# Altium integrated library Altium_WE-PD_rev22g.IntLib: 360 symbols (part 5 of 7)
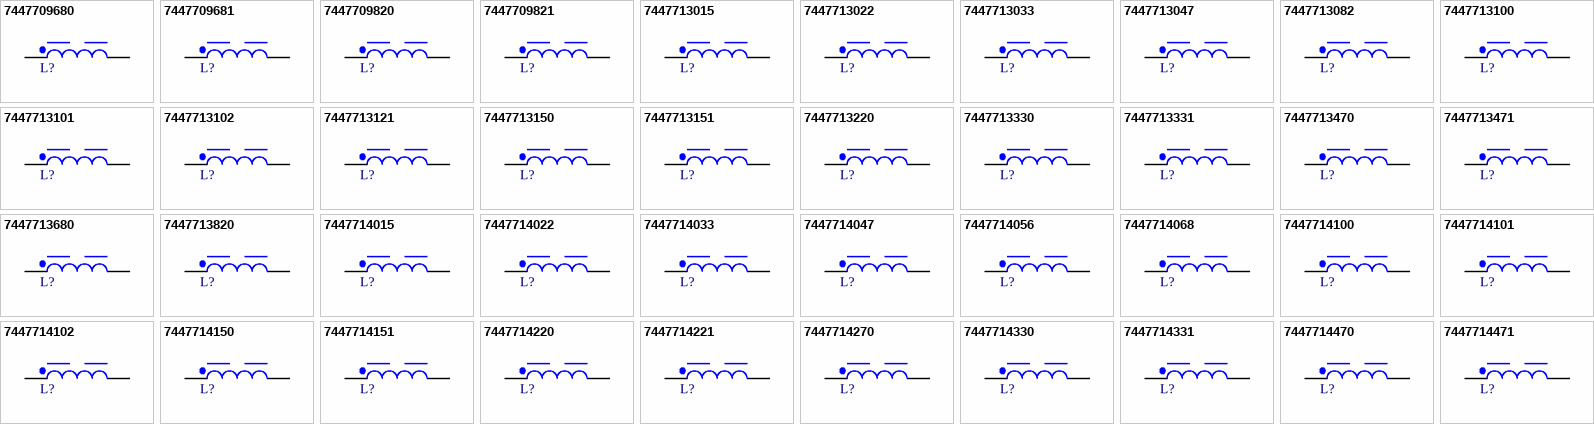
[diagram p12: symbols 7447709680 to 7447714471]

## 7447714015
designator L?, comment 1.5uH, 10A  (value not drawn)
WE-PD SMT Power Inductor, size 1050P, 1.5uH, 10A, 6.6mOhm; Manufacturer Part Number: 7447714015; Manufacturer: Wurth Elektronik; DC Resistance: 5.55mOhm; Saturation Current: 12.5A; Self Resonant Frequency: 69MHz; Type: Performance; Category: Power Inductors; Match Code: WE-PD; ComponentLink1Description: Website Link; ComponentLink1URL: https://www.we-online.com/redexpert/article/7447714015?ad; ComponentLink2Description: Datasheet Link; ComponentLink2URL: https://www.we-online.com/redexpert/spec/7447714015?ad; Mount: Surface Mount; Operating Temperature Max: 150°C; Operating Temperature Min: -40°C; Packaging: Tape and Reel; Case/Size Code: 1050P; Length: 10mm; Width: 10mm; Height: 5mm; DC Resistance Max: 6.6mOhm; Inductance: 1.5uH; Rated Current: 10A
footprint WE-PD_1050P
simulation model 1050_7447714015_1.5u
pins: 1, 2

## 7447714022
designator L?, comment 2.2uH, 8.6A  (value not drawn)
WE-PD SMT Power Inductor, size 1050P, 2.2uH, 8.6A, 8mOhm; Manufacturer Part Number: 7447714022; Manufacturer: Wurth Elektronik; DC Resistance: 6.8mOhm; Saturation Current: 9.5A; Self Resonant Frequency: 53MHz; Type: Performance; Category: Power Inductors; Match Code: WE-PD; ComponentLink1Description: Website Link; ComponentLink1URL: https://www.we-online.com/redexpert/article/7447714022?ad; ComponentLink2Description: Datasheet Link; ComponentLink2URL: https://www.we-online.com/redexpert/spec/7447714022?ad; Mount: Surface Mount; Operating Temperature Max: 150°C; Operating Temperature Min: -40°C; Packaging: Tape and Reel; Case/Size Code: 1050P; Length: 10mm; Width: 10mm; Height: 5mm; DC Resistance Max: 8mOhm; Inductance: 2.2uH; Rated Current: 8.6A
footprint WE-PD_1050P
simulation model 1050_7447714022_2.2u
pins: 1, 2

## 7447714033
designator L?, comment 3.3uH, 7.5A  (value not drawn)
WE-PD SMT Power Inductor, size 1050P, 3.3uH, 7.5A, 10.5mOhm; Manufacturer Part Number: 7447714033; Manufacturer: Wurth Elektronik; DC Resistance: 8.9mOhm; Saturation Current: 9A; Self Resonant Frequency: 42MHz; Type: Performance; Category: Power Inductors; Match Code: WE-PD; ComponentLink1Description: Website Link; ComponentLink1URL: https://www.we-online.com/redexpert/article/7447714033?ad; ComponentLink2Description: Datasheet Link; ComponentLink2URL: https://www.we-online.com/redexpert/spec/7447714033?ad; Mount: Surface Mount; Operating Temperature Max: 150°C; Operating Temperature Min: -40°C; Packaging: Tape and Reel; Case/Size Code: 1050P; Length: 10mm; Width: 10mm; Height: 5mm; DC Resistance Max: 10.5mOhm; Inductance: 3.3uH; Rated Current: 7.5A
footprint WE-PD_1050P
simulation model 1050_7447714033_3.3u
pins: 1, 2

## 7447714047
designator L?, comment 4.7uH, 7A  (value not drawn)
WE-PD SMT Power Inductor, size 1050P, 4.7uH, 7A, 12.4mOhm; Manufacturer Part Number: 7447714047; Manufacturer: Wurth Elektronik; DC Resistance: 10.4mOhm; Saturation Current: 8A; Self Resonant Frequency: 34MHz; Type: Performance; Category: Power Inductors; Match Code: WE-PD; ComponentLink1Description: Website Link; ComponentLink1URL: https://www.we-online.com/redexpert/article/7447714047?ad; ComponentLink2Description: Datasheet Link; ComponentLink2URL: https://www.we-online.com/redexpert/spec/7447714047?ad; Mount: Surface Mount; Operating Temperature Max: 150°C; Operating Temperature Min: -40°C; Packaging: Tape and Reel; Case/Size Code: 1050P; Length: 10mm; Width: 10mm; Height: 5mm; DC Resistance Max: 12.4mOhm; Inductance: 4.7uH; Rated Current: 7A
footprint WE-PD_1050P
simulation model 1050_7447714047_4.7u
pins: 1, 2

## 7447714056
designator L?, comment 5.6uH, 6A  (value not drawn)
WE-PD SMT Power Inductor, size 1050P, 5.6uH, 6A, 14.4mOhm; Manufacturer Part Number: 7447714056; Manufacturer: Wurth Elektronik; DC Resistance: 12mOhm; Saturation Current: 7.2A; Self Resonant Frequency: 28MHz; Type: Performance; Category: Power Inductors; Match Code: WE-PD; ComponentLink1Description: Website Link; ComponentLink1URL: https://www.we-online.com/redexpert/article/7447714056?ad; ComponentLink2Description: Datasheet Link; ComponentLink2URL: https://www.we-online.com/redexpert/spec/7447714056?ad; Mount: Surface Mount; Operating Temperature Max: 150°C; Operating Temperature Min: -40°C; Packaging: Tape and Reel; Case/Size Code: 1050P; Length: 10mm; Width: 10mm; Height: 5mm; DC Resistance Max: 14.4mOhm; Inductance: 5.6uH; Rated Current: 6A
footprint WE-PD_1050P
simulation model 1050_7447714056_5.6u
pins: 1, 2

## 7447714068
designator L?, comment 6.8uH, 5.2A  (value not drawn)
WE-PD SMT Power Inductor, size 1050P, 6.8uH, 5.2A, 22mOhm; Manufacturer Part Number: 7447714068; Manufacturer: Wurth Elektronik; DC Resistance: 18.5mOhm; Saturation Current: 5.8A; Self Resonant Frequency: 23.5MHz; Type: Performance; Category: Power Inductors; Match Code: WE-PD; ComponentLink1Description: Website Link; ComponentLink1URL: https://www.we-online.com/redexpert/article/7447714068?ad; ComponentLink2Description: Datasheet Link; ComponentLink2URL: https://www.we-online.com/redexpert/spec/7447714068?ad; Mount: Surface Mount; Operating Temperature Max: 150°C; Operating Temperature Min: -40°C; Packaging: Tape and Reel; Case/Size Code: 1050P; Length: 10mm; Width: 10mm; Height: 5mm; DC Resistance Max: 22mOhm; Inductance: 6.8uH; Rated Current: 5.2A
footprint WE-PD_1050P
simulation model 1050_7447714068_6.8u
pins: 1, 2

## 7447714100
designator L?, comment 10uH, 4.3A  (value not drawn)
WE-PD SMT Power Inductor, size 1050P, 10uH, 4.3A, 27mOhm; Manufacturer Part Number: 7447714100; Manufacturer: Wurth Elektronik; DC Resistance: 23mOhm; Saturation Current: 5A; Self Resonant Frequency: 20.5MHz; Type: Performance; Category: Power Inductors; Match Code: WE-PD; ComponentLink1Description: Website Link; ComponentLink1URL: https://www.we-online.com/redexpert/article/7447714100?ad; ComponentLink2Description: Datasheet Link; ComponentLink2URL: https://www.we-online.com/redexpert/spec/7447714100?ad; Mount: Surface Mount; Operating Temperature Max: 150°C; Operating Temperature Min: -40°C; Packaging: Tape and Reel; Case/Size Code: 1050P; Length: 10mm; Width: 10mm; Height: 5mm; DC Resistance Max: 27mOhm; Inductance: 10uH; Rated Current: 4.3A
footprint WE-PD_1050P
simulation model 1050_7447714100_10u
pins: 1, 2

## 7447714101
designator L?, comment 100uH, 1.5A  (value not drawn)
WE-PD SMT Power Inductor, size 1050P, 100uH, 1.5A, 198mOhm; Manufacturer Part Number: 7447714101; Manufacturer: Wurth Elektronik; DC Resistance: 165mOhm; Saturation Current: 1.8A; Self Resonant Frequency: 5.9MHz; Type: Performance; Category: Power Inductors; Match Code: WE-PD; ComponentLink1Description: Website Link; ComponentLink1URL: https://www.we-online.com/redexpert/article/7447714101?ad; ComponentLink2Description: Datasheet Link; ComponentLink2URL: https://www.we-online.com/redexpert/spec/7447714101?ad; Mount: Surface Mount; Operating Temperature Max: 150°C; Operating Temperature Min: -40°C; Packaging: Tape and Reel; Case/Size Code: 1050P; Length: 10mm; Width: 10mm; Height: 5mm; DC Resistance Max: 198mOhm; Inductance: 100uH; Rated Current: 1.5A
footprint WE-PD_1050P
simulation model 1050_7447714101_100u
pins: 1, 2

## 7447714102
designator L?, comment 1000uH, 0.43A  (value not drawn)
WE-PD SMT Power Inductor, size 1050P, 1000uH, 0.43A, 2050mOhm; Manufacturer Part Number: 7447714102; Manufacturer: Wurth Elektronik; DC Resistance: 1860mOhm; Saturation Current: 0.55A; Self Resonant Frequency: 1.7MHz; Type: Performance; Category: Power Inductors; Match Code: WE-PD; ComponentLink1Description: Website Link; ComponentLink1URL: https://www.we-online.com/redexpert/article/7447714102?ad; ComponentLink2Description: Datasheet Link; ComponentLink2URL: https://www.we-online.com/redexpert/spec/7447714102?ad; Mount: Surface Mount; Operating Temperature Max: 150°C; Operating Temperature Min: -40°C; Packaging: Tape and Reel; Case/Size Code: 1050P; Length: 10mm; Width: 10mm; Height: 5mm; DC Resistance Max: 2050mOhm; Inductance: 1000uH; Rated Current: 0.43A
footprint WE-PD_1050P
simulation model 1050_7447714102_1000u
pins: 1, 2

## 7447714150
designator L?, comment 15uH, 3.5A  (value not drawn)
WE-PD SMT Power Inductor, size 1050P, 15uH, 3.5A, 43mOhm; Manufacturer Part Number: 7447714150; Manufacturer: Wurth Elektronik; DC Resistance: 36mOhm; Saturation Current: 4.1A; Self Resonant Frequency: 16.8MHz; Type: Performance; Category: Power Inductors; Match Code: WE-PD; ComponentLink1Description: Website Link; ComponentLink1URL: https://www.we-online.com/redexpert/article/7447714150?ad; ComponentLink2Description: Datasheet Link; ComponentLink2URL: https://www.we-online.com/redexpert/spec/7447714150?ad; Mount: Surface Mount; Operating Temperature Max: 150°C; Operating Temperature Min: -40°C; Packaging: Tape and Reel; Case/Size Code: 1050P; Length: 10mm; Width: 10mm; Height: 5mm; DC Resistance Max: 43mOhm; Inductance: 15uH; Rated Current: 3.5A
footprint WE-PD_1050P
simulation model 1050_7447714150_15u
pins: 1, 2

## 7447714151
designator L?, comment 150uH, 1.2A  (value not drawn)
WE-PD SMT Power Inductor, size 1050P, 150uH, 1.2A, 300mOhm; Manufacturer Part Number: 7447714151; Manufacturer: Wurth Elektronik; DC Resistance: 251mOhm; Saturation Current: 1.4A; Self Resonant Frequency: 4.9MHz; Type: Performance; Category: Power Inductors; Match Code: WE-PD; ComponentLink1Description: Website Link; ComponentLink1URL: https://www.we-online.com/redexpert/article/7447714151?ad; ComponentLink2Description: Datasheet Link; ComponentLink2URL: https://www.we-online.com/redexpert/spec/7447714151?ad; Mount: Surface Mount; Operating Temperature Max: 150°C; Operating Temperature Min: -40°C; Packaging: Tape and Reel; Case/Size Code: 1050P; Length: 10mm; Width: 10mm; Height: 5mm; DC Resistance Max: 300mOhm; Inductance: 150uH; Rated Current: 1.2A
footprint WE-PD_1050P
simulation model 1050_7447714151_150u
pins: 1, 2

## 7447714220
designator L?, comment 22uH, 3A  (value not drawn)
WE-PD SMT Power Inductor, size 1050P, 22uH, 3A, 50mOhm; Manufacturer Part Number: 7447714220; Manufacturer: Wurth Elektronik; DC Resistance: 42mOhm; Saturation Current: 3.6A; Self Resonant Frequency: 14.5MHz; Type: Performance; Category: Power Inductors; Match Code: WE-PD; ComponentLink1Description: Website Link; ComponentLink1URL: https://www.we-online.com/redexpert/article/7447714220?ad; ComponentLink2Description: Datasheet Link; ComponentLink2URL: https://www.we-online.com/redexpert/spec/7447714220?ad; Mount: Surface Mount; Operating Temperature Max: 150°C; Operating Temperature Min: -40°C; Packaging: Tape and Reel; Case/Size Code: 1050P; Length: 10mm; Width: 10mm; Height: 5mm; DC Resistance Max: 50mOhm; Inductance: 22uH; Rated Current: 3A
footprint WE-PD_1050P
simulation model 1050_7447714220_22u
pins: 1, 2

## 7447714221
designator L?, comment 220uH, 1A  (value not drawn)
WE-PD SMT Power Inductor, size 1050P, 220uH, 1A, 439mOhm; Manufacturer Part Number: 7447714221; Manufacturer: Wurth Elektronik; DC Resistance: 366mOhm; Saturation Current: 1.2A; Self Resonant Frequency: 4.3MHz; Type: Performance; Category: Power Inductors; Match Code: WE-PD; ComponentLink1Description: Website Link; ComponentLink1URL: https://www.we-online.com/redexpert/article/7447714221?ad; ComponentLink2Description: Datasheet Link; ComponentLink2URL: https://www.we-online.com/redexpert/spec/7447714221?ad; Mount: Surface Mount; Operating Temperature Max: 150°C; Operating Temperature Min: -40°C; Packaging: Tape and Reel; Case/Size Code: 1050P; Length: 10mm; Width: 10mm; Height: 5mm; DC Resistance Max: 439mOhm; Inductance: 220uH; Rated Current: 1A
footprint WE-PD_1050P
simulation model 1050_7447714221_220u
pins: 1, 2

## 7447714270
designator L?, comment 27uH, 2.6A  (value not drawn)
WE-PD SMT Power Inductor, size 1050P, 27uH, 2.6A, 74mOhm; Manufacturer Part Number: 7447714270; Manufacturer: Wurth Elektronik; DC Resistance: 63mOhm; Saturation Current: 3.4A; Self Resonant Frequency: 14MHz; Type: Performance; Category: Power Inductors; Match Code: WE-PD; ComponentLink1Description: Website Link; ComponentLink1URL: https://www.we-online.com/redexpert/article/7447714270?ad; ComponentLink2Description: Datasheet Link; ComponentLink2URL: https://www.we-online.com/redexpert/spec/7447714270?ad; Mount: Surface Mount; Operating Temperature Max: 150°C; Operating Temperature Min: -40°C; Packaging: Tape and Reel; Case/Size Code: 1050P; Length: 10mm; Width: 10mm; Height: 5mm; DC Resistance Max: 74mOhm; Inductance: 27uH; Rated Current: 2.6A
footprint WE-PD_1050P
simulation model 1050_7447714270_27u
pins: 1, 2

## 7447714330
designator L?, comment 33uH, 2.5A  (value not drawn)
WE-PD SMT Power Inductor, size 1050P, 33uH, 2.5A, 79mOhm; Manufacturer Part Number: 7447714330; Manufacturer: Wurth Elektronik; DC Resistance: 66mOhm; Saturation Current: 2.9A; Self Resonant Frequency: 11.1MHz; Type: Performance; Category: Power Inductors; Match Code: WE-PD; ComponentLink1Description: Website Link; ComponentLink1URL: https://www.we-online.com/redexpert/article/7447714330?ad; ComponentLink2Description: Datasheet Link; ComponentLink2URL: https://www.we-online.com/redexpert/spec/7447714330?ad; Mount: Surface Mount; Operating Temperature Max: 150°C; Operating Temperature Min: -40°C; Packaging: Tape and Reel; Case/Size Code: 1050P; Length: 10mm; Width: 10mm; Height: 5mm; DC Resistance Max: 79mOhm; Inductance: 33uH; Rated Current: 2.5A
footprint WE-PD_1050P
simulation model 1050_7447714330_33u
pins: 1, 2

## 7447714331
designator L?, comment 330uH, 0.71A  (value not drawn)
WE-PD SMT Power Inductor, size 1050P, 330uH, 0.71A, 750mOhm; Manufacturer Part Number: 7447714331; Manufacturer: Wurth Elektronik; DC Resistance: 655mOhm; Saturation Current: 1A; Self Resonant Frequency: 3.15MHz; Type: Performance; Category: Power Inductors; Match Code: WE-PD; ComponentLink1Description: Website Link; ComponentLink1URL: https://www.we-online.com/redexpert/article/7447714331?ad; ComponentLink2Description: Datasheet Link; ComponentLink2URL: https://www.we-online.com/redexpert/spec/7447714331?ad; Mount: Surface Mount; Operating Temperature Max: 150°C; Operating Temperature Min: -40°C; Packaging: Tape and Reel; Case/Size Code: 1050P; Length: 10mm; Width: 10mm; Height: 5mm; DC Resistance Max: 750mOhm; Inductance: 330uH; Rated Current: 0.71A
footprint WE-PD_1050P
simulation model 1050_7447714331_330u
pins: 1, 2

## 7447714470
designator L?, comment 47uH, 2.2A  (value not drawn)
WE-PD SMT Power Inductor, size 1050P, 47uH, 2.2A, 99mOhm; Manufacturer Part Number: 7447714470; Manufacturer: Wurth Elektronik; DC Resistance: 83mOhm; Saturation Current: 2.5A; Self Resonant Frequency: 8.8MHz; Type: Performance; Category: Power Inductors; Match Code: WE-PD; ComponentLink1Description: Website Link; ComponentLink1URL: https://www.we-online.com/redexpert/article/7447714470?ad; ComponentLink2Description: Datasheet Link; ComponentLink2URL: https://www.we-online.com/redexpert/spec/7447714470?ad; Mount: Surface Mount; Operating Temperature Max: 150°C; Operating Temperature Min: -40°C; Packaging: Tape and Reel; Case/Size Code: 1050P; Length: 10mm; Width: 10mm; Height: 5mm; DC Resistance Max: 99mOhm; Inductance: 47uH; Rated Current: 2.2A
footprint WE-PD_1050P
simulation model 1050_7447714470_47u
pins: 1, 2

## 7447714471
designator L?, comment 470uH, 0.6A  (value not drawn)
WE-PD SMT Power Inductor, size 1050P, 470uH, 0.6A, 1100mOhm; Manufacturer Part Number: 7447714471; Manufacturer: Wurth Elektronik; DC Resistance: 960mOhm; Saturation Current: 0.82A; Self Resonant Frequency: 2.5MHz; Type: Performance; Category: Power Inductors; Match Code: WE-PD; ComponentLink1Description: Website Link; ComponentLink1URL: https://www.we-online.com/redexpert/article/7447714471?ad; ComponentLink2Description: Datasheet Link; ComponentLink2URL: https://www.we-online.com/redexpert/spec/7447714471?ad; Mount: Surface Mount; Operating Temperature Max: 150°C; Operating Temperature Min: -40°C; Packaging: Tape and Reel; Case/Size Code: 1050P; Length: 10mm; Width: 10mm; Height: 5mm; DC Resistance Max: 1100mOhm; Inductance: 470uH; Rated Current: 0.6A
footprint WE-PD_1050P
simulation model 1050_7447714471_470u
pins: 1, 2

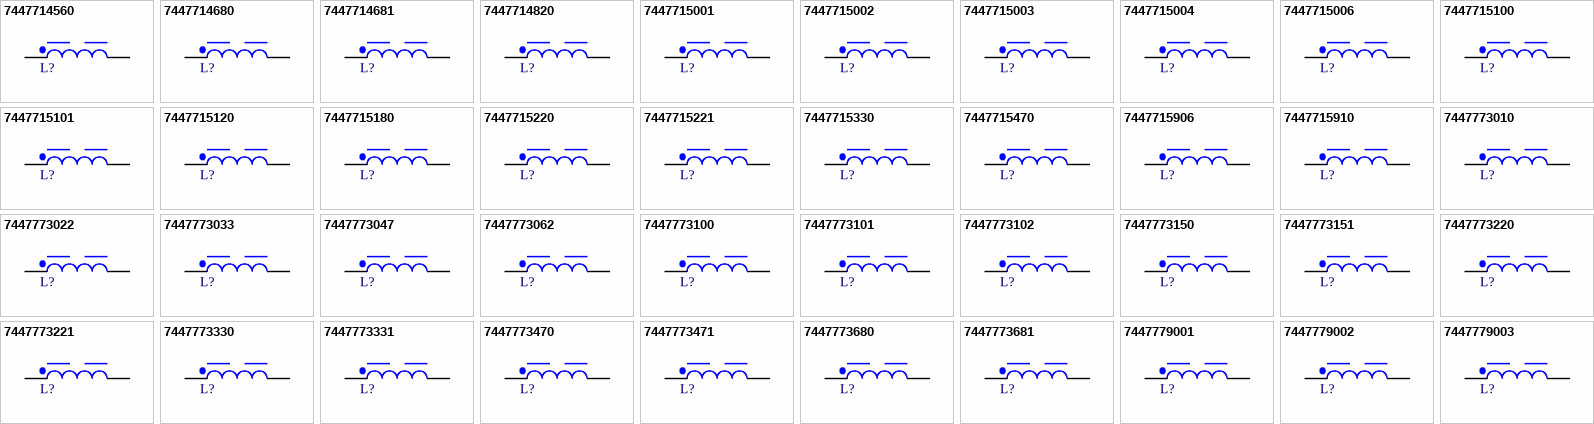
[diagram p6: symbols 7447714560 to 7447779003]

## 7447714560
designator L?, comment 56uH, 2A  (value not drawn)
WE-PD SMT Power Inductor, size 1050P, 56uH, 2A, 121mOhm; Manufacturer Part Number: 7447714560; Manufacturer: Wurth Elektronik; DC Resistance: 101mOhm; Saturation Current: 2.3A; Self Resonant Frequency: 8.6MHz; Type: Performance; Category: Power Inductors; Match Code: WE-PD; ComponentLink1Description: Website Link; ComponentLink1URL: https://www.we-online.com/redexpert/article/7447714560?ad; ComponentLink2Description: Datasheet Link; ComponentLink2URL: https://www.we-online.com/redexpert/spec/7447714560?ad; Mount: Surface Mount; Operating Temperature Max: 150°C; Operating Temperature Min: -40°C; Packaging: Tape and Reel; Case/Size Code: 1050P; Length: 10mm; Width: 10mm; Height: 5mm; DC Resistance Max: 121mOhm; Inductance: 56uH; Rated Current: 2A
footprint WE-PD_1050P
simulation model 1050_7447714560_56u
pins: 1, 2

## 7447714680
designator L?, comment 68uH, 1.9A  (value not drawn)
WE-PD SMT Power Inductor, size 1050P, 68uH, 1.9A, 132mOhm; Manufacturer Part Number: 7447714680; Manufacturer: Wurth Elektronik; DC Resistance: 110mOhm; Saturation Current: 2.2A; Self Resonant Frequency: 8MHz; Type: Performance; Category: Power Inductors; Match Code: WE-PD; ComponentLink1Description: Website Link; ComponentLink1URL: https://www.we-online.com/redexpert/article/7447714680?ad; ComponentLink2Description: Datasheet Link; ComponentLink2URL: https://www.we-online.com/redexpert/spec/7447714680?ad; Mount: Surface Mount; Operating Temperature Max: 150°C; Operating Temperature Min: -40°C; Packaging: Tape and Reel; Case/Size Code: 1050P; Length: 10mm; Width: 10mm; Height: 5mm; DC Resistance Max: 132mOhm; Inductance: 68uH; Rated Current: 1.9A
footprint WE-PD_1050P
simulation model 1050_7447714680_68u
pins: 1, 2

## 7447714681
designator L?, comment 680uH, 0.51A  (value not drawn)
WE-PD SMT Power Inductor, size 1050P, 680uH, 0.51A, 1220mOhm; Manufacturer Part Number: 7447714681; Manufacturer: Wurth Elektronik; DC Resistance: 1140mOhm; Saturation Current: 0.71A; Self Resonant Frequency: 2.05MHz; Type: Performance; Category: Power Inductors; Match Code: WE-PD; ComponentLink1Description: Website Link; ComponentLink1URL: https://www.we-online.com/redexpert/article/7447714681?ad; ComponentLink2Description: Datasheet Link; ComponentLink2URL: https://www.we-online.com/redexpert/spec/7447714681?ad; Mount: Surface Mount; Operating Temperature Max: 150°C; Operating Temperature Min: -40°C; Packaging: Tape and Reel; Case/Size Code: 1050P; Length: 10mm; Width: 10mm; Height: 5mm; DC Resistance Max: 1220mOhm; Inductance: 680uH; Rated Current: 0.51A
footprint WE-PD_1050P
simulation model 1050_7447714681_680u
pins: 1, 2

## 7447714820
designator L?, comment 82uH, 1.6A  (value not drawn)
WE-PD SMT Power Inductor, size 1050P, 82uH, 1.6A, 176mOhm; Manufacturer Part Number: 7447714820; Manufacturer: Wurth Elektronik; DC Resistance: 147mOhm; Saturation Current: 1.85A; Self Resonant Frequency: 6.6MHz; Type: Performance; Category: Power Inductors; Match Code: WE-PD; ComponentLink1Description: Website Link; ComponentLink1URL: https://www.we-online.com/redexpert/article/7447714820?ad; ComponentLink2Description: Datasheet Link; ComponentLink2URL: https://www.we-online.com/redexpert/spec/7447714820?ad; Mount: Surface Mount; Operating Temperature Max: 150°C; Operating Temperature Min: -40°C; Packaging: Tape and Reel; Case/Size Code: 1050P; Length: 10mm; Width: 10mm; Height: 5mm; DC Resistance Max: 176mOhm; Inductance: 82uH; Rated Current: 1.6A
footprint WE-PD_1050P
simulation model 1050_7447714820_82u
pins: 1, 2

## 7447715001
designator L?, comment 1.8uH, 7.6A  (value not drawn)
WE-PD SMT Power Inductor, size 1245, 1.8uH, 7.6A, 9.5mOhm; Manufacturer Part Number: 7447715001; Manufacturer: Wurth Elektronik; Case/Size Code: 1245; DC Resistance: 7.5mOhm; Saturation Current: 10.2A; Self Resonant Frequency: 76MHz; Type: Standard; Category: Power Inductors; Match Code: WE-PD; ComponentLink1Description: Website Link; ComponentLink1URL: https://www.we-online.com/redexpert/article/7447715001?ad; ComponentLink2Description: Datasheet Link; ComponentLink2URL: https://www.we-online.com/redexpert/spec/7447715001?ad; Mount: Surface Mount; Operating Temperature Max: 125°C; Operating Temperature Min: -40°C; Packaging: Tape and Reel; Length: 12mm; Width: 12mm; Height: 4.5mm; DC Resistance Max: 9.5mOhm; Inductance: 1.8uH; Rated Current: 7.6A
footprint WE-PD_1245
simulation model 1245_7447715001_1.8u
pins: 1, 2

## 7447715002
designator L?, comment 2.5uH, 6.8A  (value not drawn)
WE-PD SMT Power Inductor, size 1245, 2.5uH, 6.8A, 11mOhm; Manufacturer Part Number: 7447715002; Manufacturer: Wurth Elektronik; Case/Size Code: 1245; DC Resistance: 8.5mOhm; Saturation Current: 8.5A; Self Resonant Frequency: 50MHz; Type: Standard; Category: Power Inductors; Match Code: WE-PD; ComponentLink1Description: Website Link; ComponentLink1URL: https://www.we-online.com/redexpert/article/7447715002?ad; ComponentLink2Description: Datasheet Link; ComponentLink2URL: https://www.we-online.com/redexpert/spec/7447715002?ad; Mount: Surface Mount; Operating Temperature Max: 125°C; Operating Temperature Min: -40°C; Packaging: Tape and Reel; Length: 12mm; Width: 12mm; Height: 4.5mm; DC Resistance Max: 11mOhm; Inductance: 2.5uH; Rated Current: 6.8A
footprint WE-PD_1245
simulation model 1245_7447715002_2.5u
pins: 1, 2

## 7447715003
designator L?, comment 3.3uH, 5.9A  (value not drawn)
WE-PD SMT Power Inductor, size 1245, 3.3uH, 5.9A, 13mOhm; Manufacturer Part Number: 7447715003; Manufacturer: Wurth Elektronik; Case/Size Code: 1245; DC Resistance: 11.5mOhm; Saturation Current: 7.1A; Self Resonant Frequency: 40MHz; Type: Standard; Category: Power Inductors; Match Code: WE-PD; ComponentLink1Description: Website Link; ComponentLink1URL: https://www.we-online.com/redexpert/article/7447715003?ad; ComponentLink2Description: Datasheet Link; ComponentLink2URL: https://www.we-online.com/redexpert/spec/7447715003?ad; Mount: Surface Mount; Operating Temperature Max: 125°C; Operating Temperature Min: -40°C; Packaging: Tape and Reel; Length: 12mm; Width: 12mm; Height: 4.5mm; DC Resistance Max: 13mOhm; Inductance: 3.3uH; Rated Current: 5.9A
footprint WE-PD_1245
simulation model 1245_7447715003_3.3u
pins: 1, 2

## 7447715004
designator L?, comment 4.7uH, 5.2A  (value not drawn)
WE-PD SMT Power Inductor, size 1245, 4.7uH, 5.2A, 16mOhm; Manufacturer Part Number: 7447715004; Manufacturer: Wurth Elektronik; Case/Size Code: 1245; DC Resistance: 13.5mOhm; Saturation Current: 6.3A; Self Resonant Frequency: 37MHz; Type: Standard; Category: Power Inductors; Match Code: WE-PD; ComponentLink1Description: Website Link; ComponentLink1URL: https://www.we-online.com/redexpert/article/7447715004?ad; ComponentLink2Description: Datasheet Link; ComponentLink2URL: https://www.we-online.com/redexpert/spec/7447715004?ad; Mount: Surface Mount; Operating Temperature Max: 125°C; Operating Temperature Min: -40°C; Packaging: Tape and Reel; Length: 12mm; Width: 12mm; Height: 4.5mm; DC Resistance Max: 16mOhm; Inductance: 4.7uH; Rated Current: 5.2A
footprint WE-PD_1245
simulation model 1245_7447715004_4.7u
pins: 1, 2

## 7447715006
designator L?, comment 6.8uH, 4.3A  (value not drawn)
WE-PD SMT Power Inductor, size 1245, 6.8uH, 4.3A, 25mOhm; Manufacturer Part Number: 7447715006; Manufacturer: Wurth Elektronik; Case/Size Code: 1245; DC Resistance: 20mOhm; Saturation Current: 4.7A; Self Resonant Frequency: 27MHz; Type: Standard; Category: Power Inductors; Match Code: WE-PD; ComponentLink1Description: Website Link; ComponentLink1URL: https://www.we-online.com/redexpert/article/7447715006?ad; ComponentLink2Description: Datasheet Link; ComponentLink2URL: https://www.we-online.com/redexpert/spec/7447715006?ad; Mount: Surface Mount; Operating Temperature Max: 125°C; Operating Temperature Min: -40°C; Packaging: Tape and Reel; Length: 12mm; Width: 12mm; Height: 4.5mm; DC Resistance Max: 25mOhm; Inductance: 6.8uH; Rated Current: 4.3A
footprint WE-PD_1245
simulation model 1245_7447715006_6.8u
pins: 1, 2

## 7447715100
designator L?, comment 10uH, 3.8A  (value not drawn)
WE-PD SMT Power Inductor, size 1245, 10uH, 3.8A, 30mOhm; Manufacturer Part Number: 7447715100; Manufacturer: Wurth Elektronik; Case/Size Code: 1245; DC Resistance: 25mOhm; Saturation Current: 4.2A; Self Resonant Frequency: 22MHz; Type: Standard; Category: Power Inductors; Match Code: WE-PD; ComponentLink1Description: Website Link; ComponentLink1URL: https://www.we-online.com/redexpert/article/7447715100?ad; ComponentLink2Description: Datasheet Link; ComponentLink2URL: https://www.we-online.com/redexpert/spec/7447715100?ad; Mount: Surface Mount; Operating Temperature Max: 125°C; Operating Temperature Min: -40°C; Packaging: Tape and Reel; Length: 12mm; Width: 12mm; Height: 4.5mm; DC Resistance Max: 30mOhm; Inductance: 10uH; Rated Current: 3.8A
footprint WE-PD_1245
simulation model 1245_7447715100_10u
pins: 1, 2

## 7447715101
designator L?, comment 100uH, 1.3A  (value not drawn)
WE-PD SMT Power Inductor, size 1245, 100uH, 1.3A, 270mOhm; Manufacturer Part Number: 7447715101; Manufacturer: Wurth Elektronik; Case/Size Code: 1245; DC Resistance: 250mOhm; Saturation Current: 1.4A; Self Resonant Frequency: 6.9MHz; Type: Standard; Category: Power Inductors; Match Code: WE-PD; ComponentLink1Description: Website Link; ComponentLink1URL: https://www.we-online.com/redexpert/article/7447715101?ad; ComponentLink2Description: Datasheet Link; ComponentLink2URL: https://www.we-online.com/redexpert/spec/7447715101?ad; Mount: Surface Mount; Operating Temperature Max: 125°C; Operating Temperature Min: -40°C; Packaging: Tape and Reel; Length: 12mm; Width: 12mm; Height: 4.5mm; DC Resistance Max: 270mOhm; Inductance: 100uH; Rated Current: 1.3A
footprint WE-PD_1245
simulation model 1245_7447715101_100u
pins: 1, 2

## 7447715120
designator L?, comment 12uH, 3.5A  (value not drawn)
WE-PD SMT Power Inductor, size 1245, 12uH, 3.5A, 38mOhm; Manufacturer Part Number: 7447715120; Manufacturer: Wurth Elektronik; Case/Size Code: 1245; DC Resistance: 30mOhm; Saturation Current: 3.6A; Self Resonant Frequency: 19MHz; Type: Standard; Category: Power Inductors; Match Code: WE-PD; ComponentLink1Description: Website Link; ComponentLink1URL: https://www.we-online.com/redexpert/article/7447715120?ad; ComponentLink2Description: Datasheet Link; ComponentLink2URL: https://www.we-online.com/redexpert/spec/7447715120?ad; Mount: Surface Mount; Operating Temperature Max: 125°C; Operating Temperature Min: -40°C; Packaging: Tape and Reel; Length: 12mm; Width: 12mm; Height: 4.5mm; DC Resistance Max: 38mOhm; Inductance: 12uH; Rated Current: 3.5A
footprint WE-PD_1245
simulation model 1245_7447715120_12u
pins: 1, 2

## 7447715180
designator L?, comment 18uH, 3.2A  (value not drawn)
WE-PD SMT Power Inductor, size 1245, 18uH, 3.2A, 51mOhm; Manufacturer Part Number: 7447715180; Manufacturer: Wurth Elektronik; Case/Size Code: 1245; DC Resistance: 37mOhm; Self Resonant Frequency: 17MHz; Type: Standard; Category: Power Inductors; Match Code: WE-PD; ComponentLink1Description: Website Link; ComponentLink1URL: https://www.we-online.com/redexpert/article/7447715180?ad; ComponentLink2Description: Datasheet Link; ComponentLink2URL: https://www.we-online.com/redexpert/spec/7447715180?ad; Mount: Surface Mount; Operating Temperature Max: 125°C; Operating Temperature Min: -40°C; Packaging: Tape and Reel; Length: 12mm; Width: 12mm; Height: 4.5mm; DC Resistance Max: 51mOhm; Inductance: 18uH; Rated Current: 3.2A; Saturation Current: 3.2A
footprint WE-PD_1245
simulation model 1245_7447715180_18u
pins: 1, 2

## 7447715220
designator L?, comment 22uH, 2.9A  (value not drawn)
WE-PD SMT Power Inductor, size 1245, 22uH, 2.9A, 65mOhm; Manufacturer Part Number: 7447715220; Manufacturer: Wurth Elektronik; Case/Size Code: 1245; DC Resistance: 45mOhm; Saturation Current: 3.1A; Self Resonant Frequency: 15.5MHz; Type: Standard; Category: Power Inductors; Match Code: WE-PD; ComponentLink1Description: Website Link; ComponentLink1URL: https://www.we-online.com/redexpert/article/7447715220?ad; ComponentLink2Description: Datasheet Link; ComponentLink2URL: https://www.we-online.com/redexpert/spec/7447715220?ad; Mount: Surface Mount; Operating Temperature Max: 125°C; Operating Temperature Min: -40°C; Packaging: Tape and Reel; Length: 12mm; Width: 12mm; Height: 4.5mm; DC Resistance Max: 65mOhm; Inductance: 22uH; Rated Current: 2.9A
footprint WE-PD_1245
simulation model 1245_7447715220_22u
pins: 1, 2

## 7447715221
designator L?, comment 220uH, 0.95A  (value not drawn)
WE-PD SMT Power Inductor, size 1245, 220uH, 0.95A, 480mOhm; Manufacturer Part Number: 7447715221; Manufacturer: Wurth Elektronik; Case/Size Code: 1245; DC Resistance: 460mOhm; Saturation Current: 1A; Self Resonant Frequency: 4.7MHz; Type: Standard; Category: Power Inductors; Match Code: WE-PD; ComponentLink1Description: Website Link; ComponentLink1URL: https://www.we-online.com/redexpert/article/7447715221?ad; ComponentLink2Description: Datasheet Link; ComponentLink2URL: https://www.we-online.com/redexpert/spec/7447715221?ad; Mount: Surface Mount; Operating Temperature Max: 125°C; Operating Temperature Min: -40°C; Packaging: Tape and Reel; Length: 12mm; Width: 12mm; Height: 4.5mm; DC Resistance Max: 480mOhm; Inductance: 220uH; Rated Current: 0.95A
footprint WE-PD_1245
simulation model 1245_7447715221_220u
pins: 1, 2

## 7447715330
designator L?, comment 33uH, 2.3A  (value not drawn)
WE-PD SMT Power Inductor, size 1245, 33uH, 2.3A, 85mOhm; Manufacturer Part Number: 7447715330; Manufacturer: Wurth Elektronik; Case/Size Code: 1245; DC Resistance: 75mOhm; Saturation Current: 2.5A; Self Resonant Frequency: 13MHz; Type: Standard; Category: Power Inductors; Match Code: WE-PD; ComponentLink1Description: Website Link; ComponentLink1URL: https://www.we-online.com/redexpert/article/7447715330?ad; ComponentLink2Description: Datasheet Link; ComponentLink2URL: https://www.we-online.com/redexpert/spec/7447715330?ad; Mount: Surface Mount; Operating Temperature Max: 125°C; Operating Temperature Min: -40°C; Packaging: Tape and Reel; Length: 12mm; Width: 12mm; Height: 4.5mm; DC Resistance Max: 85mOhm; Inductance: 33uH; Rated Current: 2.3A
footprint WE-PD_1245
simulation model 1245_7447715330_33u
pins: 1, 2

## 7447715470
designator L?, comment 47uH, 1.95A  (value not drawn)
WE-PD SMT Power Inductor, size 1245, 47uH, 1.95A, 125mOhm; Manufacturer Part Number: 7447715470; Manufacturer: Wurth Elektronik; Case/Size Code: 1245; DC Resistance: 105mOhm; Saturation Current: 2.1A; Self Resonant Frequency: 9.7MHz; Type: Standard; Category: Power Inductors; Match Code: WE-PD; ComponentLink1Description: Website Link; ComponentLink1URL: https://www.we-online.com/redexpert/article/7447715470?ad; ComponentLink2Description: Datasheet Link; ComponentLink2URL: https://www.we-online.com/redexpert/spec/7447715470?ad; Mount: Surface Mount; Operating Temperature Max: 125°C; Operating Temperature Min: -40°C; Packaging: Tape and Reel; Length: 12mm; Width: 12mm; Height: 4.5mm; DC Resistance Max: 125mOhm; Inductance: 47uH; Rated Current: 1.95A
footprint WE-PD_1245
simulation model 1245_7447715470_47u
pins: 1, 2

## 7447715906
designator L?, comment 0.6uH, 9.5A  (value not drawn)
WE-PD SMT Power Inductor, size 1245, 0.6uH, 9.5A, 5.5mOhm; Manufacturer Part Number: 7447715906; Manufacturer: Wurth Elektronik; Case/Size Code: 1245; DC Resistance: 4.5mOhm; Saturation Current: 19A; Self Resonant Frequency: 160MHz; Type: Standard; Category: Power Inductors; Match Code: WE-PD; ComponentLink1Description: Website Link; ComponentLink1URL: https://www.we-online.com/redexpert/article/7447715906?ad; ComponentLink2Description: Datasheet Link; ComponentLink2URL: https://www.we-online.com/redexpert/spec/7447715906?ad; Mount: Surface Mount; Operating Temperature Max: 125°C; Operating Temperature Min: -40°C; Packaging: Tape and Reel; Length: 12mm; Width: 12mm; Height: 4.5mm; DC Resistance Max: 5.5mOhm; Inductance: 0.6uH; Rated Current: 9.5A
footprint WE-PD_1245
simulation model 1245_7447715906_0.6u
pins: 1, 2

## 7447715910
designator L?, comment 1uH, 8.5A  (value not drawn)
WE-PD SMT Power Inductor, size 1245, 1uH, 8.5A, 7mOhm; Manufacturer Part Number: 7447715910; Manufacturer: Wurth Elektronik; Case/Size Code: 1245; DC Resistance: 5.5mOhm; Saturation Current: 13.9A; Self Resonant Frequency: 98MHz; Type: Standard; Category: Power Inductors; Match Code: WE-PD; ComponentLink1Description: Website Link; ComponentLink1URL: https://www.we-online.com/redexpert/article/7447715910?ad; ComponentLink2Description: Datasheet Link; ComponentLink2URL: https://www.we-online.com/redexpert/spec/7447715910?ad; Mount: Surface Mount; Operating Temperature Max: 125°C; Operating Temperature Min: -40°C; Packaging: Tape and Reel; Length: 12mm; Width: 12mm; Height: 4.5mm; DC Resistance Max: 7mOhm; Inductance: 1uH; Rated Current: 8.5A
footprint WE-PD_1245
simulation model 1245_7447715910_1u
pins: 1, 2

## 7447773010
designator L?, comment 1uH, 6A  (value not drawn)
WE-PD SMT Power Inductor, size 7345P, 1uH, 6A, 12mOhm; Manufacturer Part Number: 7447773010; Manufacturer: Wurth Elektronik; DC Resistance: 8.4mOhm; Saturation Current: 10A; Self Resonant Frequency: 98MHz; Type: Performance; Category: Power Inductors; Match Code: WE-PD; ComponentLink1Description: Website Link; ComponentLink1URL: https://www.we-online.com/redexpert/article/7447773010?ad; ComponentLink2Description: Datasheet Link; ComponentLink2URL: https://www.we-online.com/redexpert/spec/7447773010?ad; Mount: Surface Mount; Operating Temperature Max: 150°C; Operating Temperature Min: -40°C; Packaging: Tape and Reel; Case/Size Code: 7345P; Length: 7.3mm; Width: 7.4mm; Height: 4.5mm; DC Resistance Max: 12mOhm; Inductance: 1uH; Rated Current: 6A
footprint WE-PD_7345P
simulation model 7345_7447773010_1u
pins: 1, 2

## 7447773022
designator L?, comment 2.2uH, 4.8A  (value not drawn)
WE-PD SMT Power Inductor, size 7345P, 2.2uH, 4.8A, 17.5mOhm; Manufacturer Part Number: 7447773022; Manufacturer: Wurth Elektronik; DC Resistance: 12.5mOhm; Saturation Current: 8A; Self Resonant Frequency: 61MHz; Type: Performance; Category: Power Inductors; Match Code: WE-PD; ComponentLink1Description: Website Link; ComponentLink1URL: https://www.we-online.com/redexpert/article/7447773022?ad; ComponentLink2Description: Datasheet Link; ComponentLink2URL: https://www.we-online.com/redexpert/spec/7447773022?ad; Mount: Surface Mount; Operating Temperature Max: 150°C; Operating Temperature Min: -40°C; Packaging: Tape and Reel; Case/Size Code: 7345P; Length: 7.3mm; Width: 7.4mm; Height: 4.5mm; DC Resistance Max: 17.5mOhm; Inductance: 2.2uH; Rated Current: 4.8A
footprint WE-PD_7345P
simulation model 7345_7447773022_2.2u
pins: 1, 2

## 7447773033
designator L?, comment 3.3uH, 4.3A  (value not drawn)
WE-PD SMT Power Inductor, size 7345P, 3.3uH, 4.3A, 21mOhm; Manufacturer Part Number: 7447773033; Manufacturer: Wurth Elektronik; DC Resistance: 15.5mOhm; Saturation Current: 6.6A; Self Resonant Frequency: 51MHz; Type: Performance; Category: Power Inductors; Match Code: WE-PD; ComponentLink1Description: Website Link; ComponentLink1URL: https://www.we-online.com/redexpert/article/7447773033?ad; ComponentLink2Description: Datasheet Link; ComponentLink2URL: https://www.we-online.com/redexpert/spec/7447773033?ad; Mount: Surface Mount; Operating Temperature Max: 150°C; Operating Temperature Min: -40°C; Packaging: Tape and Reel; Case/Size Code: 7345P; Length: 7.3mm; Width: 7.4mm; Height: 4.5mm; DC Resistance Max: 21mOhm; Inductance: 3.3uH; Rated Current: 4.3A
footprint WE-PD_7345P
simulation model 7345_7447773033_3.3u
pins: 1, 2

## 7447773047
designator L?, comment 4.7uH, 3.6A  (value not drawn)
WE-PD SMT Power Inductor, size 7345P, 4.7uH, 3.6A, 26mOhm; Manufacturer Part Number: 7447773047; Manufacturer: Wurth Elektronik; DC Resistance: 20mOhm; Saturation Current: 5.5A; Self Resonant Frequency: 35.5MHz; Type: Performance; Category: Power Inductors; Match Code: WE-PD; ComponentLink1Description: Website Link; ComponentLink1URL: https://www.we-online.com/redexpert/article/7447773047?ad; ComponentLink2Description: Datasheet Link; ComponentLink2URL: https://www.we-online.com/redexpert/spec/7447773047?ad; Mount: Surface Mount; Operating Temperature Max: 150°C; Operating Temperature Min: -40°C; Packaging: Tape and Reel; Case/Size Code: 7345P; Length: 7.3mm; Width: 7.4mm; Height: 4.5mm; DC Resistance Max: 26mOhm; Inductance: 4.7uH; Rated Current: 3.6A
footprint WE-PD_7345P
simulation model 7345_7447773047_4.7u
pins: 1, 2

## 7447773062
designator L?, comment 6.2uH, 3.2A  (value not drawn)
WE-PD SMT Power Inductor, size 7345P, 6.2uH, 3.2A, 30mOhm; Manufacturer Part Number: 7447773062; Manufacturer: Wurth Elektronik; DC Resistance: 25mOhm; Saturation Current: 4.8A; Self Resonant Frequency: 31MHz; Type: Performance; Category: Power Inductors; Match Code: WE-PD; ComponentLink1Description: Website Link; ComponentLink1URL: https://www.we-online.com/redexpert/article/7447773062?ad; ComponentLink2Description: Datasheet Link; ComponentLink2URL: https://www.we-online.com/redexpert/spec/7447773062?ad; Mount: Surface Mount; Operating Temperature Max: 150°C; Operating Temperature Min: -40°C; Packaging: Tape and Reel; Case/Size Code: 7345P; Length: 7.3mm; Width: 7.4mm; Height: 4.5mm; DC Resistance Max: 30mOhm; Inductance: 6.2uH; Rated Current: 3.2A
footprint WE-PD_7345P
simulation model 7345_7447773062_6.2u
pins: 1, 2

## 7447773100
designator L?, comment 10uH, 2.6A  (value not drawn)
WE-PD SMT Power Inductor, size 7345P, 10uH, 2.6A, 45mOhm; Manufacturer Part Number: 7447773100; Manufacturer: Wurth Elektronik; DC Resistance: 37.5mOhm; Saturation Current: 3.8A; Self Resonant Frequency: 23MHz; Type: Performance; Category: Power Inductors; Match Code: WE-PD; ComponentLink1Description: Website Link; ComponentLink1URL: https://www.we-online.com/redexpert/article/7447773100?ad; ComponentLink2Description: Datasheet Link; ComponentLink2URL: https://www.we-online.com/redexpert/spec/7447773100?ad; Mount: Surface Mount; Operating Temperature Max: 150°C; Operating Temperature Min: -40°C; Packaging: Tape and Reel; Case/Size Code: 7345P; Length: 7.3mm; Width: 7.4mm; Height: 4.5mm; DC Resistance Max: 45mOhm; Inductance: 10uH; Rated Current: 2.6A
footprint WE-PD_7345P
simulation model 7345_7447773100_10u
pins: 1, 2

## 7447773101
designator L?, comment 100uH, 0.97A  (value not drawn)
WE-PD SMT Power Inductor, size 7345P, 100uH, 0.97A, 335mOhm; Manufacturer Part Number: 7447773101; Manufacturer: Wurth Elektronik; DC Resistance: 270mOhm; Saturation Current: 1.2A; Self Resonant Frequency: 6.7MHz; Type: Performance; Category: Power Inductors; Match Code: WE-PD; ComponentLink1Description: Website Link; ComponentLink1URL: https://www.we-online.com/redexpert/article/7447773101?ad; ComponentLink2Description: Datasheet Link; ComponentLink2URL: https://www.we-online.com/redexpert/spec/7447773101?ad; Mount: Surface Mount; Operating Temperature Max: 150°C; Operating Temperature Min: -40°C; Packaging: Tape and Reel; Case/Size Code: 7345P; Length: 7.3mm; Width: 7.4mm; Height: 4.5mm; DC Resistance Max: 335mOhm; Inductance: 100uH; Rated Current: 0.97A
footprint WE-PD_7345P
simulation model 7345_7447773101_100u
pins: 1, 2

## 7447773102
designator L?, comment 1000uH, 0.3A  (value not drawn)
WE-PD SMT Power Inductor, size 7345P, 1000uH, 0.3A, 3300mOhm; Manufacturer Part Number: 7447773102; Manufacturer: Wurth Elektronik; DC Resistance: 2850mOhm; Saturation Current: 0.38A; Self Resonant Frequency: 1.9MHz; Type: Performance; Category: Power Inductors; Match Code: WE-PD; ComponentLink1Description: Website Link; ComponentLink1URL: https://www.we-online.com/redexpert/article/7447773102?ad; ComponentLink2Description: Datasheet Link; ComponentLink2URL: https://www.we-online.com/redexpert/spec/7447773102?ad; Mount: Surface Mount; Operating Temperature Max: 150°C; Operating Temperature Min: -40°C; Packaging: Tape and Reel; Case/Size Code: 7345P; Length: 7.3mm; Width: 7.4mm; Height: 4.5mm; DC Resistance Max: 3300mOhm; Inductance: 1000uH; Rated Current: 0.3A
footprint WE-PD_7345P
simulation model 7345_7447773102_1000u
pins: 1, 2

## 7447773150
designator L?, comment 15uH, 2.2A  (value not drawn)
WE-PD SMT Power Inductor, size 7345P, 15uH, 2.2A, 69.5mOhm; Manufacturer Part Number: 7447773150; Manufacturer: Wurth Elektronik; DC Resistance: 53mOhm; Saturation Current: 3.1A; Self Resonant Frequency: 20.7MHz; Type: Performance; Category: Power Inductors; Match Code: WE-PD; ComponentLink1Description: Website Link; ComponentLink1URL: https://www.we-online.com/redexpert/article/7447773150?ad; ComponentLink2Description: Datasheet Link; ComponentLink2URL: https://www.we-online.com/redexpert/spec/7447773150?ad; Mount: Surface Mount; Operating Temperature Max: 150°C; Operating Temperature Min: -40°C; Packaging: Tape and Reel; Case/Size Code: 7345P; Length: 7.3mm; Width: 7.4mm; Height: 4.5mm; DC Resistance Max: 69.5mOhm; Inductance: 15uH; Rated Current: 2.2A
footprint WE-PD_7345P
simulation model 7345_7447773150_15u
pins: 1, 2

## 7447773151
designator L?, comment 150uH, 0.78A  (value not drawn)
WE-PD SMT Power Inductor, size 7345P, 150uH, 0.78A, 515mOhm; Manufacturer Part Number: 7447773151; Manufacturer: Wurth Elektronik; DC Resistance: 410mOhm; Saturation Current: 0.95A; Self Resonant Frequency: 5.2MHz; Type: Performance; Category: Power Inductors; Match Code: WE-PD; ComponentLink1Description: Website Link; ComponentLink1URL: https://www.we-online.com/redexpert/article/7447773151?ad; ComponentLink2Description: Datasheet Link; ComponentLink2URL: https://www.we-online.com/redexpert/spec/7447773151?ad; Mount: Surface Mount; Operating Temperature Max: 150°C; Operating Temperature Min: -40°C; Packaging: Tape and Reel; Case/Size Code: 7345P; Length: 7.3mm; Width: 7.4mm; Height: 4.5mm; DC Resistance Max: 515mOhm; Inductance: 150uH; Rated Current: 0.78A
footprint WE-PD_7345P
simulation model 7345_7447773151_150u
pins: 1, 2

## 7447773220
designator L?, comment 22uH, 1.85A  (value not drawn)
WE-PD SMT Power Inductor, size 7345P, 22uH, 1.85A, 87mOhm; Manufacturer Part Number: 7447773220; Manufacturer: Wurth Elektronik; DC Resistance: 75mOhm; Saturation Current: 2.5A; Self Resonant Frequency: 16.1MHz; Type: Performance; Category: Power Inductors; Match Code: WE-PD; ComponentLink1Description: Website Link; ComponentLink1URL: https://www.we-online.com/redexpert/article/7447773220?ad; ComponentLink2Description: Datasheet Link; ComponentLink2URL: https://www.we-online.com/redexpert/spec/7447773220?ad; Mount: Surface Mount; Operating Temperature Max: 150°C; Operating Temperature Min: -40°C; Packaging: Tape and Reel; Case/Size Code: 7345P; Length: 7.3mm; Width: 7.4mm; Height: 4.5mm; DC Resistance Max: 87mOhm; Inductance: 22uH; Rated Current: 1.85A
footprint WE-PD_7345P
simulation model 7345_7447773220_22u
pins: 1, 2

## 7447773221
designator L?, comment 220uH, 0.63A  (value not drawn)
WE-PD SMT Power Inductor, size 7345P, 220uH, 0.63A, 770mOhm; Manufacturer Part Number: 7447773221; Manufacturer: Wurth Elektronik; DC Resistance: 640mOhm; Saturation Current: 0.81A; Self Resonant Frequency: 4.3MHz; Type: Performance; Category: Power Inductors; Match Code: WE-PD; ComponentLink1Description: Website Link; ComponentLink1URL: https://www.we-online.com/redexpert/article/7447773221?ad; ComponentLink2Description: Datasheet Link; ComponentLink2URL: https://www.we-online.com/redexpert/spec/7447773221?ad; Mount: Surface Mount; Operating Temperature Max: 150°C; Operating Temperature Min: -40°C; Packaging: Tape and Reel; Case/Size Code: 7345P; Length: 7.3mm; Width: 7.4mm; Height: 4.5mm; DC Resistance Max: 770mOhm; Inductance: 220uH; Rated Current: 0.63A
footprint WE-PD_7345P
simulation model 7345_7447773221_220u
pins: 1, 2

## 7447773330
designator L?, comment 33uH, 1.45A  (value not drawn)
WE-PD SMT Power Inductor, size 7345P, 33uH, 1.45A, 147mOhm; Manufacturer Part Number: 7447773330; Manufacturer: Wurth Elektronik; DC Resistance: 120mOhm; Saturation Current: 2.1A; Self Resonant Frequency: 13.5MHz; Type: Performance; Category: Power Inductors; Match Code: WE-PD; ComponentLink1Description: Website Link; ComponentLink1URL: https://www.we-online.com/redexpert/article/7447773330?ad; ComponentLink2Description: Datasheet Link; ComponentLink2URL: https://www.we-online.com/redexpert/spec/7447773330?ad; Mount: Surface Mount; Operating Temperature Max: 150°C; Operating Temperature Min: -40°C; Packaging: Tape and Reel; Case/Size Code: 7345P; Length: 7.3mm; Width: 7.4mm; Height: 4.5mm; DC Resistance Max: 147mOhm; Inductance: 33uH; Rated Current: 1.45A
footprint WE-PD_7345P
simulation model 7345_7447773330_33u
pins: 1, 2

## 7447773331
designator L?, comment 330uH, 0.53A  (value not drawn)
WE-PD SMT Power Inductor, size 7345P, 330uH, 0.53A, 1085mOhm; Manufacturer Part Number: 7447773331; Manufacturer: Wurth Elektronik; DC Resistance: 900mOhm; Saturation Current: 0.66A; Self Resonant Frequency: 3.6MHz; Type: Performance; Category: Power Inductors; Match Code: WE-PD; ComponentLink1Description: Website Link; ComponentLink1URL: https://www.we-online.com/redexpert/article/7447773331?ad; ComponentLink2Description: Datasheet Link; ComponentLink2URL: https://www.we-online.com/redexpert/spec/7447773331?ad; Mount: Surface Mount; Operating Temperature Max: 150°C; Operating Temperature Min: -40°C; Packaging: Tape and Reel; Case/Size Code: 7345P; Length: 7.3mm; Width: 7.4mm; Height: 4.5mm; DC Resistance Max: 1085mOhm; Inductance: 330uH; Rated Current: 0.53A
footprint WE-PD_7345P
simulation model 7345_7447773331_330u
pins: 1, 2

## 7447773470
designator L?, comment 47uH, 1.3A  (value not drawn)
WE-PD SMT Power Inductor, size 7345P, 47uH, 1.3A, 182mOhm; Manufacturer Part Number: 7447773470; Manufacturer: Wurth Elektronik; DC Resistance: 150mOhm; Saturation Current: 1.7A; Self Resonant Frequency: 10.3MHz; Type: Performance; Category: Power Inductors; Match Code: WE-PD; ComponentLink1Description: Website Link; ComponentLink1URL: https://www.we-online.com/redexpert/article/7447773470?ad; ComponentLink2Description: Datasheet Link; ComponentLink2URL: https://www.we-online.com/redexpert/spec/7447773470?ad; Mount: Surface Mount; Operating Temperature Max: 150°C; Operating Temperature Min: -40°C; Packaging: Tape and Reel; Case/Size Code: 7345P; Length: 7.3mm; Width: 7.4mm; Height: 4.5mm; DC Resistance Max: 182mOhm; Inductance: 47uH; Rated Current: 1.3A
footprint WE-PD_7345P
simulation model 7345_7447773470_47u
pins: 1, 2

## 7447773471
designator L?, comment 470uH, 0.43A  (value not drawn)
WE-PD SMT Power Inductor, size 7345P, 470uH, 0.43A, 1700mOhm; Manufacturer Part Number: 7447773471; Manufacturer: Wurth Elektronik; DC Resistance: 1360mOhm; Saturation Current: 0.55A; Self Resonant Frequency: 2.8MHz; Type: Performance; Category: Power Inductors; Match Code: WE-PD; ComponentLink1Description: Website Link; ComponentLink1URL: https://www.we-online.com/redexpert/article/7447773471?ad; ComponentLink2Description: Datasheet Link; ComponentLink2URL: https://www.we-online.com/redexpert/spec/7447773471?ad; Mount: Surface Mount; Operating Temperature Max: 150°C; Operating Temperature Min: -40°C; Packaging: Tape and Reel; Case/Size Code: 7345P; Length: 7.3mm; Width: 7.4mm; Height: 4.5mm; DC Resistance Max: 1700mOhm; Inductance: 470uH; Rated Current: 0.43A
footprint WE-PD_7345P
simulation model 7345_7447773471_470u
pins: 1, 2

## 7447773680
designator L?, comment 68uH, 1.15A  (value not drawn)
WE-PD SMT Power Inductor, size 7345P, 68uH, 1.15A, 230mOhm; Manufacturer Part Number: 7447773680; Manufacturer: Wurth Elektronik; DC Resistance: 190mOhm; Saturation Current: 1.45A; Self Resonant Frequency: 8.4MHz; Type: Performance; Category: Power Inductors; Match Code: WE-PD; ComponentLink1Description: Website Link; ComponentLink1URL: https://www.we-online.com/redexpert/article/7447773680?ad; ComponentLink2Description: Datasheet Link; ComponentLink2URL: https://www.we-online.com/redexpert/spec/7447773680?ad; Mount: Surface Mount; Operating Temperature Max: 150°C; Operating Temperature Min: -40°C; Packaging: Tape and Reel; Case/Size Code: 7345P; Length: 7.3mm; Width: 7.4mm; Height: 4.5mm; DC Resistance Max: 230mOhm; Inductance: 68uH; Rated Current: 1.15A
footprint WE-PD_7345P
simulation model 7345_7447773680_68u
pins: 1, 2

## 7447773681
designator L?, comment 680uH, 0.36A  (value not drawn)
WE-PD SMT Power Inductor, size 7345P, 680uH, 0.36A, 2300mOhm; Manufacturer Part Number: 7447773681; Manufacturer: Wurth Elektronik; DC Resistance: 1950mOhm; Saturation Current: 0.46A; Self Resonant Frequency: 2.3MHz; Type: Performance; Category: Power Inductors; Match Code: WE-PD; ComponentLink1Description: Website Link; ComponentLink1URL: https://www.we-online.com/redexpert/article/7447773681?ad; ComponentLink2Description: Datasheet Link; ComponentLink2URL: https://www.we-online.com/redexpert/spec/7447773681?ad; Mount: Surface Mount; Operating Temperature Max: 150°C; Operating Temperature Min: -40°C; Packaging: Tape and Reel; Case/Size Code: 7345P; Length: 7.3mm; Width: 7.4mm; Height: 4.5mm; DC Resistance Max: 2300mOhm; Inductance: 680uH; Rated Current: 0.36A
footprint WE-PD_7345P
simulation model 7345_7447773681_680u
pins: 1, 2